# EAGLE library part STEREO_DUAL_JACK_MOUSER (library Cycfi)
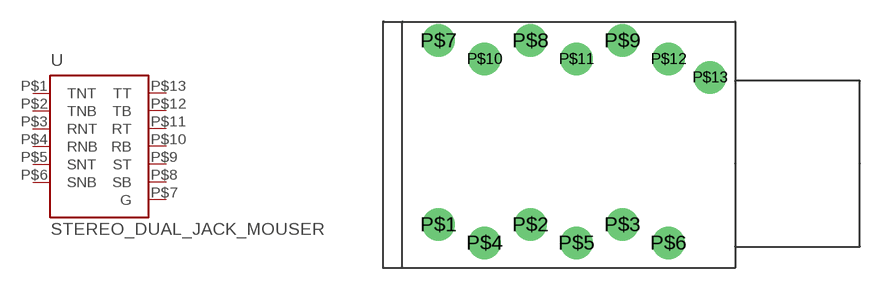
[diagram p5: symbol with the pads of STACKING_JACK; footprint STACKING_JACK]

Designator prefix -

## STEREO_DUAL_JACK_MOUSER  [STACKING_JACK]
P$1  TNT  pwr
P$2  TNB  pwr
P$3  RNT  pwr
P$4  RNB  pwr
P$5  SNT  pwr
P$6  SNB  pwr
P$7  G  pwr
P$8  SB  pwr
P$9  ST  pwr
P$10  RB  out
P$11  RT  out
P$12  TB
P$13  TT

## Footprint STACKING_JACK (pad centres in mm)
drill 1.5: P$1 0,0; P$2 6.35,0; P$3 12.7,0; P$4 3.18,-1.27; P$5 9.53,-1.27; P$6 15.874,-1.27; P$7 0,12.7; P$8 6.35,12.7; P$9 12.7,12.7; P$10 3.18,11.43; P$11 9.53,11.43; P$12 15.874,11.43; P$13 18.75,10.16